# Altium integrated library AMP Card Edge 050 Series PCI.IntLib: 42 symbols (part 2 of 2)
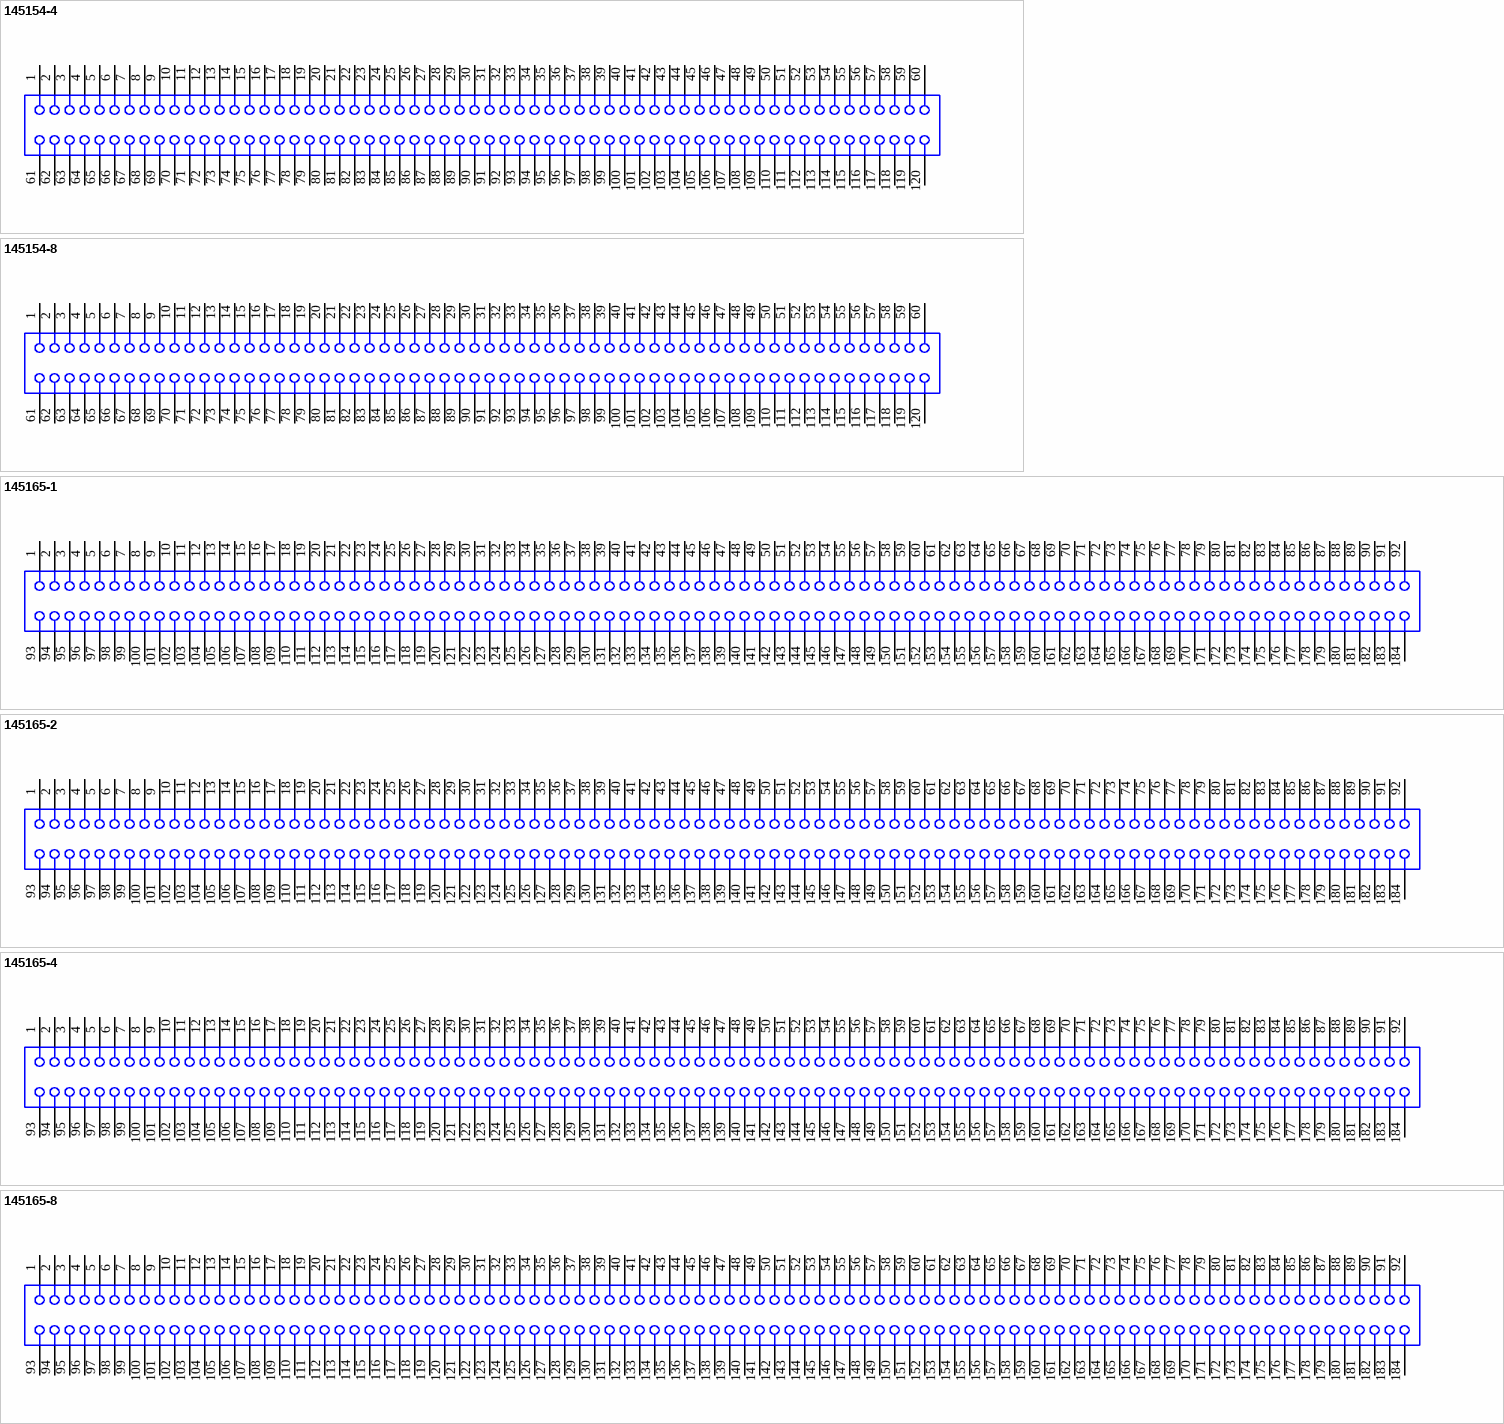
[diagram p7: symbols 145154-4 to 145165-8]

## 145165-8
designator J?
Connector Assembly, 92 Dual Position, 1.27 [.050] Series, Standard Edge; Positions: 2x92; BusWidth: 64 Bit; ContactMaterial: Phosphor Bronze; ContactPlating: Gold (30); Voltage: 3.3V; PCB_Layout: Complies with manufacturer's recommendation.; DrillSize: Corresponds to nominal value.; Published: 17-Jul-2002; DatasheetDocument: 6-Oct-1999; PackageDocument: 06-Oct-1999; PackageReference: 145165-8; Publisher: Altium Limited; ComponentLink1Description: Manufacturer Link; ComponentLink1URL: http://www.tycoelectronics.com/; ComponentLink2Description: Packaging Specification; ComponentLink2URL: http://ecommas.tycoelectronics.com/commerce/DocumentDelivery/DDEController?Action=showdoc&DocId=Customer+Drawing%7F145165%7FH%7Ftif%7FEnglish%7FENG_CD_145165_H.tif
footprint 145165-8 (Connector; Card Edge .050 Series PCI; 2x92 Position; 64-Bit Bus)
signal-integrity model Card Edge
pins: 1 A1, 2 A2, 3 A3, 4 A4, 5 A5, 6 A6, 7 A7, 8 A8, 9 A9, 10 A10, 11 A11, 12 A12, 13 A13, 14 A14, 15 A15, 16 A16, 17 A17, 18 A18, 19 A19, 20 A20, 21 A21, 22 A22, 23 A23, 24 A24, 25 A25, 26 A26, 27 A27, 28 A28, 29 A29, 30 A30, 31 A31, 32 A32, 33 A33, 34 A34, 35 A35, 36 A36, 37 A37, 38 A38, 39 A39, 40 A40, 41 A41, 42 A42, 43 A43, 44 A44, 45 A45, 46 A46, 47 A47, 48 A48, 49 A49, 50 A50, 51 A51, 52 A52, 53 A53, 54 A54, 55 A55, 56 A56, 57 A57, 58 A58, 59 A59, 60 A60, 61 A61, 62 A62, 63 A63, 64 A64, 65 A65, 66 A66, 67 A67, 68 A68, 69 A69, 70 A70, 71 A71, 72 A72, 73 A73, 74 A74, 75 A75, 76 A76, 77 A77, 78 A78, 79 A79, 80 A80, 81 A81, 82 A82, 83 A83, 84 A84, 85 A85, 86 A86, 87 A87, 88 A88, 89 A89, 90 A90, 91 A91, 92 A92, 93 B1, 94 B2, 95 B3, 96 B4, 97 B5, 98 B6, 99 B7, 100 B8, 101 B9, 102 B10, 103 B11, 104 B12, 105 B13, 106 B14, 107 B15, 108 B16, 109 B17, 110 B18, 111 B19, 112 B20, 113 B21, 114 B22, 115 B23, 116 B24, 117 B25, 118 B26, 119 B27, 120 B28, 121 B29, 122 B30, 123 B31, 124 B32, 125 B33, 126 B34, 127 B35, 128 B36, 129 B37, 130 B38, 131 B39, 132 B40, 133 B41, 134 B42, 135 B43, 136 B44, 137 B45, 138 B46, 139 B47, 140 B48, 141 B49, 142 B50, 143 B51, 144 B52, 145 B53, 146 B54, 147 B55, 148 B56, 149 B57, 150 B58, 151 B59, 152 B60, 153 B61, 154 B62, 155 B63, 156 B64, 157 B65, 158 B66, 159 B67, 160 B68, 161 B69, 162 B70, 163 B71, 164 B72, 165 B73, 166 B74, 167 B75, 168 B76, 169 B77, 170 B78, 171 B79, 172 B80, 173 B81, 174 B82, 175 B83, 176 B84, 177 B85, 178 B86, 179 B87, 180 B88, 181 B89, 182 B90, 183 B91, 184 B92

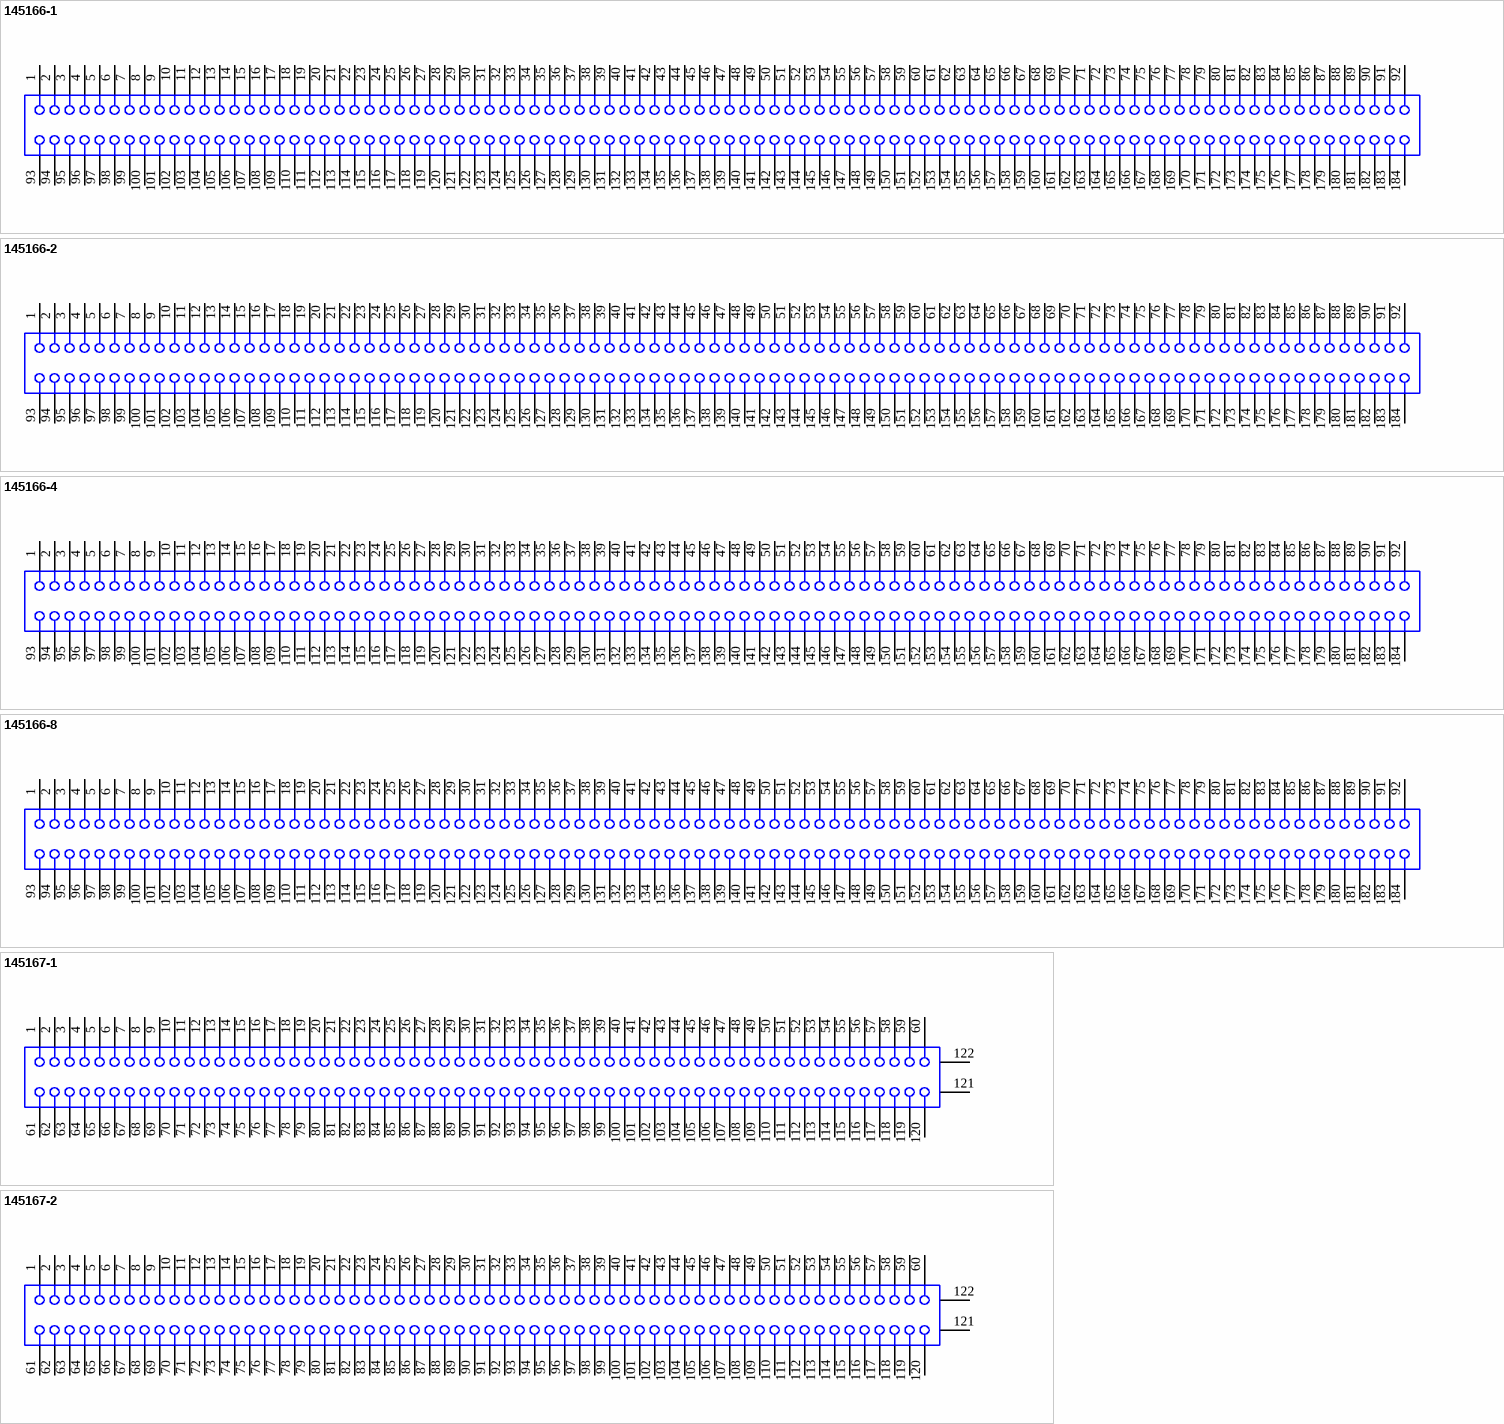
[diagram p4: symbols 145166-1 to 145167-2]

## 145166-1
designator J?
Connector Assembly, 92 Dual Position, 1.27 [.050] Series, Standard Edge; Positions: 2x92; BusWidth: 64 Bit; ContactMaterial: Phosphor Bronze; ContactPlating: Gold Flash; Voltage: 5V; PCB_Layout: Complies with manufacturer's recommendation.; DrillSize: Corresponds to nominal value.; Published: 17-Jul-2002; DatasheetDocument: 14-May-2000; PackageDocument: 14-May-2000; PackageReference: 145166-1; Publisher: Altium Limited; ComponentLink1Description: Manufacturer Link; ComponentLink1URL: http://www.tycoelectronics.com/; ComponentLink2Description: Packaging Specification; ComponentLink2URL: http://ecommas.tycoelectronics.com/commerce/DocumentDelivery/DDEController?Action=showdoc&DocId=Customer+Drawing%7F145166%7FF%7Fpdf%7FEnglish%7FENG_CD_145166_F.pdf
footprint 145166-1 (Connector; Card Edge .050 Series PCI; 2x92 Position; 64-Bit Bus)
signal-integrity model Card Edge
pins: 1 A1, 2 A2, 3 A3, 4 A4, 5 A5, 6 A6, 7 A7, 8 A8, 9 A9, 10 A10, 11 A11, 12 A12, 13 A13, 14 A14, 15 A15, 16 A16, 17 A17, 18 A18, 19 A19, 20 A20, 21 A21, 22 A22, 23 A23, 24 A24, 25 A25, 26 A26, 27 A27, 28 A28, 29 A29, 30 A30, 31 A31, 32 A32, 33 A33, 34 A34, 35 A35, 36 A36, 37 A37, 38 A38, 39 A39, 40 A40, 41 A41, 42 A42, 43 A43, 44 A44, 45 A45, 46 A46, 47 A47, 48 A48, 49 A49, 50 A50, 51 A51, 52 A52, 53 A53, 54 A54, 55 A55, 56 A56, 57 A57, 58 A58, 59 A59, 60 A60, 61 A61, 62 A62, 63 A63, 64 A64, 65 A65, 66 A66, 67 A67, 68 A68, 69 A69, 70 A70, 71 A71, 72 A72, 73 A73, 74 A74, 75 A75, 76 A76, 77 A77, 78 A78, 79 A79, 80 A80, 81 A81, 82 A82, 83 A83, 84 A84, 85 A85, 86 A86, 87 A87, 88 A88, 89 A89, 90 A90, 91 A91, 92 A92, 93 B1, 94 B2, 95 B3, 96 B4, 97 B5, 98 B6, 99 B7, 100 B8, 101 B9, 102 B10, 103 B11, 104 B12, 105 B13, 106 B14, 107 B15, 108 B16, 109 B17, 110 B18, 111 B19, 112 B20, 113 B21, 114 B22, 115 B23, 116 B24, 117 B25, 118 B26, 119 B27, 120 B28, 121 B29, 122 B30, 123 B31, 124 B32, 125 B33, 126 B34, 127 B35, 128 B36, 129 B37, 130 B38, 131 B39, 132 B40, 133 B41, 134 B42, 135 B43, 136 B44, 137 B45, 138 B46, 139 B47, 140 B48, 141 B49, 142 B50, 143 B51, 144 B52, 145 B53, 146 B54, 147 B55, 148 B56, 149 B57, 150 B58, 151 B59, 152 B60, 153 B61, 154 B62, 155 B63, 156 B64, 157 B65, 158 B66, 159 B67, 160 B68, 161 B69, 162 B70, 163 B71, 164 B72, 165 B73, 166 B74, 167 B75, 168 B76, 169 B77, 170 B78, 171 B79, 172 B80, 173 B81, 174 B82, 175 B83, 176 B84, 177 B85, 178 B86, 179 B87, 180 B88, 181 B89, 182 B90, 183 B91, 184 B92

## 145166-2
designator J?
Connector Assembly, 92 Dual Position, 1.27 [.050] Series, Standard Edge; Positions: 2x92; BusWidth: 64 Bit; ContactMaterial: Phosphor Bronze; ContactPlating: Gold (15); Voltage: 5V; PCB_Layout: Complies with manufacturer's recommendation.; DrillSize: Corresponds to nominal value.; Published: 17-Jul-2002; DatasheetDocument: 14-May-2000; PackageDocument: 14-May-2000; PackageReference: 145166-2; Publisher: Altium Limited; ComponentLink1Description: Manufacturer Link; ComponentLink1URL: http://www.tycoelectronics.com/; ComponentLink2Description: Packaging Specification; ComponentLink2URL: http://ecommas.tycoelectronics.com/commerce/DocumentDelivery/DDEController?Action=showdoc&DocId=Customer+Drawing%7F145166%7FF%7Fpdf%7FEnglish%7FENG_CD_145166_F.pdf
footprint 145166-2 (Connector; Card Edge .050 Series PCI; 2x92 Position; 64-Bit Bus)
signal-integrity model Card Edge
pins: 1 A1, 2 A2, 3 A3, 4 A4, 5 A5, 6 A6, 7 A7, 8 A8, 9 A9, 10 A10, 11 A11, 12 A12, 13 A13, 14 A14, 15 A15, 16 A16, 17 A17, 18 A18, 19 A19, 20 A20, 21 A21, 22 A22, 23 A23, 24 A24, 25 A25, 26 A26, 27 A27, 28 A28, 29 A29, 30 A30, 31 A31, 32 A32, 33 A33, 34 A34, 35 A35, 36 A36, 37 A37, 38 A38, 39 A39, 40 A40, 41 A41, 42 A42, 43 A43, 44 A44, 45 A45, 46 A46, 47 A47, 48 A48, 49 A49, 50 A50, 51 A51, 52 A52, 53 A53, 54 A54, 55 A55, 56 A56, 57 A57, 58 A58, 59 A59, 60 A60, 61 A61, 62 A62, 63 A63, 64 A64, 65 A65, 66 A66, 67 A67, 68 A68, 69 A69, 70 A70, 71 A71, 72 A72, 73 A73, 74 A74, 75 A75, 76 A76, 77 A77, 78 A78, 79 A79, 80 A80, 81 A81, 82 A82, 83 A83, 84 A84, 85 A85, 86 A86, 87 A87, 88 A88, 89 A89, 90 A90, 91 A91, 92 A92, 93 B1, 94 B2, 95 B3, 96 B4, 97 B5, 98 B6, 99 B7, 100 B8, 101 B9, 102 B10, 103 B11, 104 B12, 105 B13, 106 B14, 107 B15, 108 B16, 109 B17, 110 B18, 111 B19, 112 B20, 113 B21, 114 B22, 115 B23, 116 B24, 117 B25, 118 B26, 119 B27, 120 B28, 121 B29, 122 B30, 123 B31, 124 B32, 125 B33, 126 B34, 127 B35, 128 B36, 129 B37, 130 B38, 131 B39, 132 B40, 133 B41, 134 B42, 135 B43, 136 B44, 137 B45, 138 B46, 139 B47, 140 B48, 141 B49, 142 B50, 143 B51, 144 B52, 145 B53, 146 B54, 147 B55, 148 B56, 149 B57, 150 B58, 151 B59, 152 B60, 153 B61, 154 B62, 155 B63, 156 B64, 157 B65, 158 B66, 159 B67, 160 B68, 161 B69, 162 B70, 163 B71, 164 B72, 165 B73, 166 B74, 167 B75, 168 B76, 169 B77, 170 B78, 171 B79, 172 B80, 173 B81, 174 B82, 175 B83, 176 B84, 177 B85, 178 B86, 179 B87, 180 B88, 181 B89, 182 B90, 183 B91, 184 B92

## 145166-4
designator J?
Connector Assembly, 92 Dual Position, 1.27 [.050] Series, Standard Edge; Positions: 2x92; BusWidth: 64 Bit; ContactMaterial: Phosphor Bronze; ContactPlating: Gold (30); Voltage: 5V; PCB_Layout: Complies with manufacturer's recommendation.; DrillSize: Corresponds to nominal value.; Published: 17-Jul-2002; DatasheetDocument: 14-May-2000; PackageDocument: 14-May-2000; PackageReference: 145166-4; Publisher: Altium Limited; ComponentLink1Description: Manufacturer Link; ComponentLink1URL: http://www.tycoelectronics.com/; ComponentLink2Description: Packaging Specification; ComponentLink2URL: http://ecommas.tycoelectronics.com/commerce/DocumentDelivery/DDEController?Action=showdoc&DocId=Customer+Drawing%7F145166%7FF%7Fpdf%7FEnglish%7FENG_CD_145166_F.pdf
footprint 145166-4 (Connector; Card Edge .050 Series PCI; 2x92 Position; 64-Bit Bus)
signal-integrity model Card Edge
pins: 1 A1, 2 A2, 3 A3, 4 A4, 5 A5, 6 A6, 7 A7, 8 A8, 9 A9, 10 A10, 11 A11, 12 A12, 13 A13, 14 A14, 15 A15, 16 A16, 17 A17, 18 A18, 19 A19, 20 A20, 21 A21, 22 A22, 23 A23, 24 A24, 25 A25, 26 A26, 27 A27, 28 A28, 29 A29, 30 A30, 31 A31, 32 A32, 33 A33, 34 A34, 35 A35, 36 A36, 37 A37, 38 A38, 39 A39, 40 A40, 41 A41, 42 A42, 43 A43, 44 A44, 45 A45, 46 A46, 47 A47, 48 A48, 49 A49, 50 A50, 51 A51, 52 A52, 53 A53, 54 A54, 55 A55, 56 A56, 57 A57, 58 A58, 59 A59, 60 A60, 61 A61, 62 A62, 63 A63, 64 A64, 65 A65, 66 A66, 67 A67, 68 A68, 69 A69, 70 A70, 71 A71, 72 A72, 73 A73, 74 A74, 75 A75, 76 A76, 77 A77, 78 A78, 79 A79, 80 A80, 81 A81, 82 A82, 83 A83, 84 A84, 85 A85, 86 A86, 87 A87, 88 A88, 89 A89, 90 A90, 91 A91, 92 A92, 93 B1, 94 B2, 95 B3, 96 B4, 97 B5, 98 B6, 99 B7, 100 B8, 101 B9, 102 B10, 103 B11, 104 B12, 105 B13, 106 B14, 107 B15, 108 B16, 109 B17, 110 B18, 111 B19, 112 B20, 113 B21, 114 B22, 115 B23, 116 B24, 117 B25, 118 B26, 119 B27, 120 B28, 121 B29, 122 B30, 123 B31, 124 B32, 125 B33, 126 B34, 127 B35, 128 B36, 129 B37, 130 B38, 131 B39, 132 B40, 133 B41, 134 B42, 135 B43, 136 B44, 137 B45, 138 B46, 139 B47, 140 B48, 141 B49, 142 B50, 143 B51, 144 B52, 145 B53, 146 B54, 147 B55, 148 B56, 149 B57, 150 B58, 151 B59, 152 B60, 153 B61, 154 B62, 155 B63, 156 B64, 157 B65, 158 B66, 159 B67, 160 B68, 161 B69, 162 B70, 163 B71, 164 B72, 165 B73, 166 B74, 167 B75, 168 B76, 169 B77, 170 B78, 171 B79, 172 B80, 173 B81, 174 B82, 175 B83, 176 B84, 177 B85, 178 B86, 179 B87, 180 B88, 181 B89, 182 B90, 183 B91, 184 B92

## 145166-8
designator J?
Connector Assembly, 92 Dual Position, 1.27 [.050] Series, Standard Edge; Positions: 2x92; BusWidth: 64 Bit; ContactMaterial: Phosphor Bronze; ContactPlating: Gold (30); Voltage: 5V; PCB_Layout: Complies with manufacturer's recommendation.; DrillSize: Corresponds to nominal value.; Published: 17-Jul-2002; DatasheetDocument: 14-May-2000; PackageDocument: 14-May-2000; PackageReference: 145166-8; Publisher: Altium Limited; ComponentLink1Description: Manufacturer Link; ComponentLink1URL: http://www.tycoelectronics.com/; ComponentLink2Description: Packaging Specification; ComponentLink2URL: http://ecommas.tycoelectronics.com/commerce/DocumentDelivery/DDEController?Action=showdoc&DocId=Customer+Drawing%7F145166%7FF%7Fpdf%7FEnglish%7FENG_CD_145166_F.pdf
footprint 145166-8 (Connector; Card Edge .050 Series PCI; 2x92 Position; 64-Bit Bus)
signal-integrity model Card Edge
pins: 1 A1, 2 A2, 3 A3, 4 A4, 5 A5, 6 A6, 7 A7, 8 A8, 9 A9, 10 A10, 11 A11, 12 A12, 13 A13, 14 A14, 15 A15, 16 A16, 17 A17, 18 A18, 19 A19, 20 A20, 21 A21, 22 A22, 23 A23, 24 A24, 25 A25, 26 A26, 27 A27, 28 A28, 29 A29, 30 A30, 31 A31, 32 A32, 33 A33, 34 A34, 35 A35, 36 A36, 37 A37, 38 A38, 39 A39, 40 A40, 41 A41, 42 A42, 43 A43, 44 A44, 45 A45, 46 A46, 47 A47, 48 A48, 49 A49, 50 A50, 51 A51, 52 A52, 53 A53, 54 A54, 55 A55, 56 A56, 57 A57, 58 A58, 59 A59, 60 A60, 61 A61, 62 A62, 63 A63, 64 A64, 65 A65, 66 A66, 67 A67, 68 A68, 69 A69, 70 A70, 71 A71, 72 A72, 73 A73, 74 A74, 75 A75, 76 A76, 77 A77, 78 A78, 79 A79, 80 A80, 81 A81, 82 A82, 83 A83, 84 A84, 85 A85, 86 A86, 87 A87, 88 A88, 89 A89, 90 A90, 91 A91, 92 A92, 93 B1, 94 B2, 95 B3, 96 B4, 97 B5, 98 B6, 99 B7, 100 B8, 101 B9, 102 B10, 103 B11, 104 B12, 105 B13, 106 B14, 107 B15, 108 B16, 109 B17, 110 B18, 111 B19, 112 B20, 113 B21, 114 B22, 115 B23, 116 B24, 117 B25, 118 B26, 119 B27, 120 B28, 121 B29, 122 B30, 123 B31, 124 B32, 125 B33, 126 B34, 127 B35, 128 B36, 129 B37, 130 B38, 131 B39, 132 B40, 133 B41, 134 B42, 135 B43, 136 B44, 137 B45, 138 B46, 139 B47, 140 B48, 141 B49, 142 B50, 143 B51, 144 B52, 145 B53, 146 B54, 147 B55, 148 B56, 149 B57, 150 B58, 151 B59, 152 B60, 153 B61, 154 B62, 155 B63, 156 B64, 157 B65, 158 B66, 159 B67, 160 B68, 161 B69, 162 B70, 163 B71, 164 B72, 165 B73, 166 B74, 167 B75, 168 B76, 169 B77, 170 B78, 171 B79, 172 B80, 173 B81, 174 B82, 175 B83, 176 B84, 177 B85, 178 B86, 179 B87, 180 B88, 181 B89, 182 B90, 183 B91, 184 B92

## 145167-1
designator J?
Connector Assembly, 60 Dual Position, 1.27 [.050] Series, Standard Edge; Positions: 2x60; BusWidth: 32 Bit; ContactMaterial: Phosphor Bronze; ContactPlating: Gold Flash; Voltage: 3.3V, 5V; PCB_Layout: Complies with manufacturer's recommendation.; DrillSize: Corresponds to nominal value.; Published: 17-Jul-2002; DatasheetDocument: 22-May-2000; PackageDocument: 22-May-2000; PackageReference: 145167-1; Publisher: Altium Limited; ComponentLink1Description: Manufacturer Link; ComponentLink1URL: http://www.tycoelectronics.com/; ComponentLink2Description: Packaging Specification; ComponentLink2URL: http://ecommas.tycoelectronics.com/commerce/DocumentDelivery/DDEController?Action=showdoc&DocId=Customer+Drawing%7F145167%7FG%7Ftif%7FEnglish%7FENG_CD_145167_G.tif; ComponentLink3Description: Iges Model; ComponentLink3URL: http://catalog.tycoelectronics.com/TE/docs/cadgeo/2/78/51872.tar.gz
footprint 145167-1 (Connector; Card Edge .050 Series PCI; 2x60 Position; 32-Bit Bus)
signal-integrity model Card Edge
pins: 1 A1, 2 A2, 3 A3, 4 A4, 5 A5, 6 A6, 7 A7, 8 A8, 9 A9, 10 A10, 11 A11, 12 A12, 13 A13, 14 A14, 15 A15, 16 A16, 17 A17, 18 A18, 19 A19, 20 A20, 21 A21, 22 A22, 23 A23, 24 A24, 25 A25, 26 A26, 27 A27, 28 A28, 29 A29, 30 A30, 31 A31, 32 A32, 33 A33, 34 A34, 35 A35, 36 A36, 37 A37, 38 A38, 39 A39, 40 A40, 41 A41, 42 A42, 43 A43, 44 A44, 45 A45, 46 A46, 47 A47, 48 A48, 49 A49, 50 A50, 51 A51, 52 A52, 53 A53, 54 A54, 55 A55, 56 A56, 57 A57, 58 A58, 59 A59, 60 A60, 61 B1, 62 B2, 63 B3, 64 B4, 65 B5, 66 B6, 67 B7, 68 B8, 69 B9, 70 B10, 71 B11, 72 B12, 73 B13, 74 B14, 75 B15, 76 B16, 77 B17, 78 B18, 79 B19, 80 B20, 81 B21, 82 B22, 83 B23, 84 B24, 85 B25, 86 B26, 87 B27, 88 B28, 89 B29, 90 B30, 91 B31, 92 B32, 93 B33, 94 B34, 95 B35, 96 B36, 97 B37, 98 B38, 99 B39, 100 B40, 101 B41, 102 B42, 103 B43, 104 B44, 105 B45, 106 B46, 107 B47, 108 B48, 109 B49, 110 B50, 111 B51, 112 B52, 113 B53, 114 B54, 115 B55, 116 B56, 117 B57, 118 B58, 119 B59, 120 B60, 121 MH1, 122 MH2

## 145167-2
designator J?
Connector Assembly, 60 Dual Position, 1.27 [.050] Series, Standard Edge; Positions: 2x60; BusWidth: 32 Bit; ContactMaterial: Phosphor Bronze; ContactPlating: Gold (15); Voltage: 3.3V, 5V; PCB_Layout: Complies with manufacturer's recommendation.; DrillSize: Corresponds to nominal value.; Published: 17-Jul-2002; DatasheetDocument: 22-May-2000; PackageDocument: 22-May-2000; PackageReference: 145167-2; Publisher: Altium Limited; ComponentLink1Description: Manufacturer Link; ComponentLink1URL: http://www.tycoelectronics.com/; ComponentLink2Description: Packaging Specification; ComponentLink2URL: http://ecommas.tycoelectronics.com/commerce/DocumentDelivery/DDEController?Action=showdoc&DocId=Customer+Drawing%7F145167%7FG%7Ftif%7FEnglish%7FENG_CD_145167_G.tif; ComponentLink3Description: Iges Model; ComponentLink3URL: http://catalog.tycoelectronics.com/TE/docs/cadgeo/2/78/51872.tar.gz
footprint 145167-2 (Connector; Card Edge .050 Series PCI; 2x60 Position; 32-Bit Bus)
signal-integrity model Card Edge
pins: 1 A1, 2 A2, 3 A3, 4 A4, 5 A5, 6 A6, 7 A7, 8 A8, 9 A9, 10 A10, 11 A11, 12 A12, 13 A13, 14 A14, 15 A15, 16 A16, 17 A17, 18 A18, 19 A19, 20 A20, 21 A21, 22 A22, 23 A23, 24 A24, 25 A25, 26 A26, 27 A27, 28 A28, 29 A29, 30 A30, 31 A31, 32 A32, 33 A33, 34 A34, 35 A35, 36 A36, 37 A37, 38 A38, 39 A39, 40 A40, 41 A41, 42 A42, 43 A43, 44 A44, 45 A45, 46 A46, 47 A47, 48 A48, 49 A49, 50 A50, 51 A51, 52 A52, 53 A53, 54 A54, 55 A55, 56 A56, 57 A57, 58 A58, 59 A59, 60 A60, 61 B1, 62 B2, 63 B3, 64 B4, 65 B5, 66 B6, 67 B7, 68 B8, 69 B9, 70 B10, 71 B11, 72 B12, 73 B13, 74 B14, 75 B15, 76 B16, 77 B17, 78 B18, 79 B19, 80 B20, 81 B21, 82 B22, 83 B23, 84 B24, 85 B25, 86 B26, 87 B27, 88 B28, 89 B29, 90 B30, 91 B31, 92 B32, 93 B33, 94 B34, 95 B35, 96 B36, 97 B37, 98 B38, 99 B39, 100 B40, 101 B41, 102 B42, 103 B43, 104 B44, 105 B45, 106 B46, 107 B47, 108 B48, 109 B49, 110 B50, 111 B51, 112 B52, 113 B53, 114 B54, 115 B55, 116 B56, 117 B57, 118 B58, 119 B59, 120 B60, 121 MH1, 122 MH2

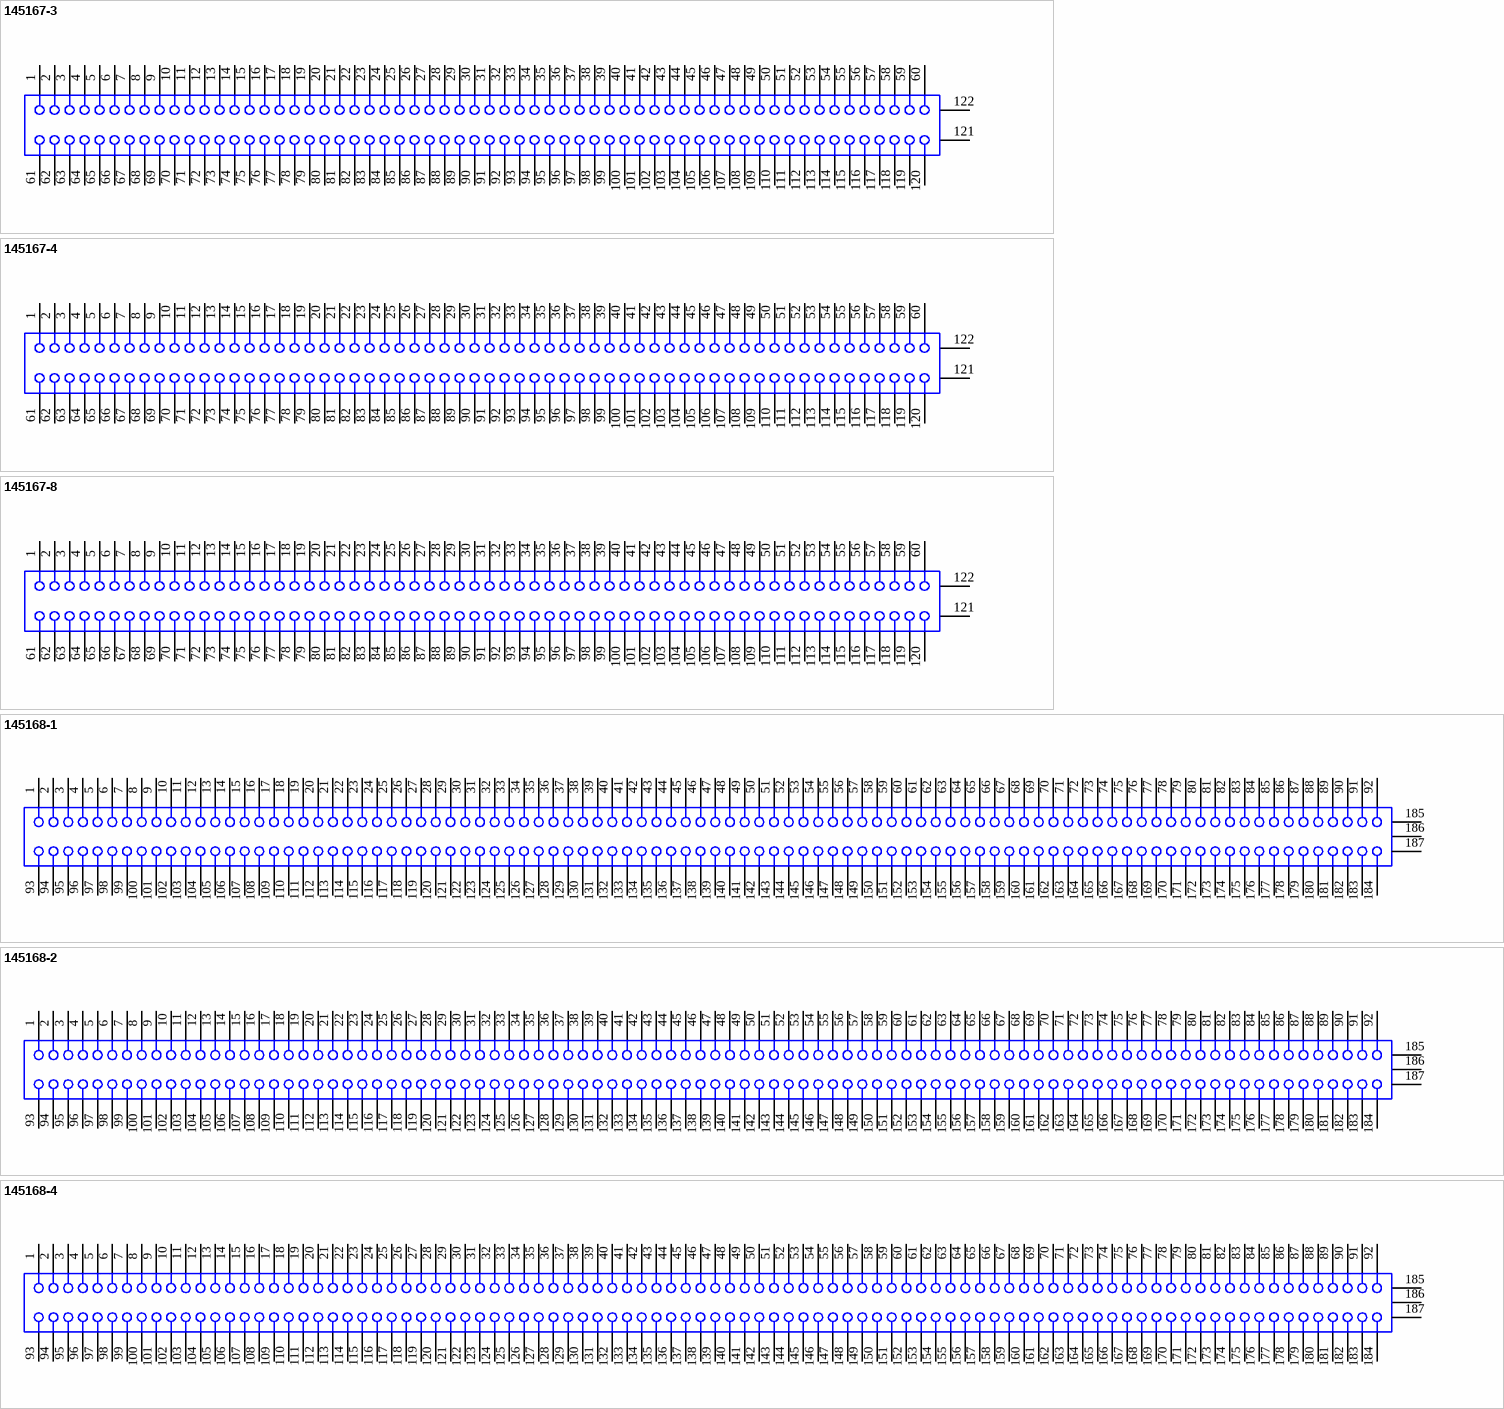
[diagram p5: symbols 145167-3 to 145168-4]

## 145167-3
designator J?
Connector Assembly, 60 Dual Position, 1.27 [.050] Series, Standard Edge; Positions: 2x60; BusWidth: 32 Bit; ContactMaterial: Phosphor Bronze; ContactPlating: Gold (30); Voltage: 3.3V, 5V; PCB_Layout: Complies with manufacturer's recommendation.; DrillSize: Corresponds to nominal value.; Published: 17-Jul-2002; DatasheetDocument: 22-May-2000; PackageDocument: 22-May-2000; PackageReference: 145167-3; Publisher: Altium Limited; ComponentLink1Description: Manufacturer Link; ComponentLink1URL: http://www.tycoelectronics.com/; ComponentLink2Description: Packaging Specification; ComponentLink2URL: http://ecommas.tycoelectronics.com/commerce/DocumentDelivery/DDEController?Action=showdoc&DocId=Customer+Drawing%7F145167%7FG%7Ftif%7FEnglish%7FENG_CD_145167_G.tif; ComponentLink3Description: Iges Model; ComponentLink3URL: http://catalog.tycoelectronics.com/TE/docs/cadgeo/2/78/51872.tar.gz
footprint 145167-3 (Connector; Card Edge .050 Series PCI; 2x60 Position; 32-Bit Bus)
signal-integrity model Card Edge
pins: 1 A1, 2 A2, 3 A3, 4 A4, 5 A5, 6 A6, 7 A7, 8 A8, 9 A9, 10 A10, 11 A11, 12 A12, 13 A13, 14 A14, 15 A15, 16 A16, 17 A17, 18 A18, 19 A19, 20 A20, 21 A21, 22 A22, 23 A23, 24 A24, 25 A25, 26 A26, 27 A27, 28 A28, 29 A29, 30 A30, 31 A31, 32 A32, 33 A33, 34 A34, 35 A35, 36 A36, 37 A37, 38 A38, 39 A39, 40 A40, 41 A41, 42 A42, 43 A43, 44 A44, 45 A45, 46 A46, 47 A47, 48 A48, 49 A49, 50 A50, 51 A51, 52 A52, 53 A53, 54 A54, 55 A55, 56 A56, 57 A57, 58 A58, 59 A59, 60 A60, 61 B1, 62 B2, 63 B3, 64 B4, 65 B5, 66 B6, 67 B7, 68 B8, 69 B9, 70 B10, 71 B11, 72 B12, 73 B13, 74 B14, 75 B15, 76 B16, 77 B17, 78 B18, 79 B19, 80 B20, 81 B21, 82 B22, 83 B23, 84 B24, 85 B25, 86 B26, 87 B27, 88 B28, 89 B29, 90 B30, 91 B31, 92 B32, 93 B33, 94 B34, 95 B35, 96 B36, 97 B37, 98 B38, 99 B39, 100 B40, 101 B41, 102 B42, 103 B43, 104 B44, 105 B45, 106 B46, 107 B47, 108 B48, 109 B49, 110 B50, 111 B51, 112 B52, 113 B53, 114 B54, 115 B55, 116 B56, 117 B57, 118 B58, 119 B59, 120 B60, 121 MH1, 122 MH2

## 145167-4
designator J?
Connector Assembly, 60 Dual Position, 1.27 [.050] Series, Standard Edge; Positions: 2x60; BusWidth: 32 Bit; ContactMaterial: Phosphor Bronze; ContactPlating: Gold (30); Voltage: 3.3V, 5V; PCB_Layout: Complies with manufacturer's recommendation.; DrillSize: Corresponds to nominal value.; Published: 17-Jul-2002; DatasheetDocument: 22-May-2000; PackageDocument: 22-May-2000; PackageReference: 145167-4; Publisher: Altium Limited; ComponentLink1Description: Manufacturer Link; ComponentLink1URL: http://www.tycoelectronics.com/; ComponentLink2Description: Packaging Specification; ComponentLink2URL: http://ecommas.tycoelectronics.com/commerce/DocumentDelivery/DDEController?Action=showdoc&DocId=Customer+Drawing%7F145167%7FG%7Ftif%7FEnglish%7FENG_CD_145167_G.tif; ComponentLink3Description: Iges Model; ComponentLink3URL: http://catalog.tycoelectronics.com/TE/docs/cadgeo/2/78/51872.tar.gz
footprint 145167-4 (Connector; Card Edge .050 Series PCI; 2x60 Position; 32-Bit Bus)
signal-integrity model Card Edge
pins: 1 A1, 2 A2, 3 A3, 4 A4, 5 A5, 6 A6, 7 A7, 8 A8, 9 A9, 10 A10, 11 A11, 12 A12, 13 A13, 14 A14, 15 A15, 16 A16, 17 A17, 18 A18, 19 A19, 20 A20, 21 A21, 22 A22, 23 A23, 24 A24, 25 A25, 26 A26, 27 A27, 28 A28, 29 A29, 30 A30, 31 A31, 32 A32, 33 A33, 34 A34, 35 A35, 36 A36, 37 A37, 38 A38, 39 A39, 40 A40, 41 A41, 42 A42, 43 A43, 44 A44, 45 A45, 46 A46, 47 A47, 48 A48, 49 A49, 50 A50, 51 A51, 52 A52, 53 A53, 54 A54, 55 A55, 56 A56, 57 A57, 58 A58, 59 A59, 60 A60, 61 B1, 62 B2, 63 B3, 64 B4, 65 B5, 66 B6, 67 B7, 68 B8, 69 B9, 70 B10, 71 B11, 72 B12, 73 B13, 74 B14, 75 B15, 76 B16, 77 B17, 78 B18, 79 B19, 80 B20, 81 B21, 82 B22, 83 B23, 84 B24, 85 B25, 86 B26, 87 B27, 88 B28, 89 B29, 90 B30, 91 B31, 92 B32, 93 B33, 94 B34, 95 B35, 96 B36, 97 B37, 98 B38, 99 B39, 100 B40, 101 B41, 102 B42, 103 B43, 104 B44, 105 B45, 106 B46, 107 B47, 108 B48, 109 B49, 110 B50, 111 B51, 112 B52, 113 B53, 114 B54, 115 B55, 116 B56, 117 B57, 118 B58, 119 B59, 120 B60, 121 MH1, 122 MH2

## 145167-8
designator J?
Connector Assembly, 60 Dual Position, 1.27 [.050] Series, Standard Edge; Positions: 2x60; BusWidth: 32 Bit; ContactMaterial: Phosphor Bronze; ContactPlating: Gold (30); Voltage: 3.3V, 5V; PCB_Layout: Complies with manufacturer's recommendation.; DrillSize: Corresponds to nominal value.; Published: 17-Jul-2002; DatasheetDocument: 22-May-2000; PackageDocument: 22-May-2000; PackageReference: 145167-8; Publisher: Altium Limited; ComponentLink1Description: Manufacturer Link; ComponentLink1URL: http://www.tycoelectronics.com/; ComponentLink2Description: Packaging Specification; ComponentLink2URL: http://ecommas.tycoelectronics.com/commerce/DocumentDelivery/DDEController?Action=showdoc&DocId=Customer+Drawing%7F145167%7FG%7Ftif%7FEnglish%7FENG_CD_145167_G.tif; ComponentLink3Description: Iges Model; ComponentLink3URL: http://catalog.tycoelectronics.com/TE/docs/cadgeo/2/78/51872.tar.gz
footprint 145167-8 (Connector; Card Edge .050 Series PCI; 2x60 Position; 32-Bit Bus)
signal-integrity model Card Edge
pins: 1 A1, 2 A2, 3 A3, 4 A4, 5 A5, 6 A6, 7 A7, 8 A8, 9 A9, 10 A10, 11 A11, 12 A12, 13 A13, 14 A14, 15 A15, 16 A16, 17 A17, 18 A18, 19 A19, 20 A20, 21 A21, 22 A22, 23 A23, 24 A24, 25 A25, 26 A26, 27 A27, 28 A28, 29 A29, 30 A30, 31 A31, 32 A32, 33 A33, 34 A34, 35 A35, 36 A36, 37 A37, 38 A38, 39 A39, 40 A40, 41 A41, 42 A42, 43 A43, 44 A44, 45 A45, 46 A46, 47 A47, 48 A48, 49 A49, 50 A50, 51 A51, 52 A52, 53 A53, 54 A54, 55 A55, 56 A56, 57 A57, 58 A58, 59 A59, 60 A60, 61 B1, 62 B2, 63 B3, 64 B4, 65 B5, 66 B6, 67 B7, 68 B8, 69 B9, 70 B10, 71 B11, 72 B12, 73 B13, 74 B14, 75 B15, 76 B16, 77 B17, 78 B18, 79 B19, 80 B20, 81 B21, 82 B22, 83 B23, 84 B24, 85 B25, 86 B26, 87 B27, 88 B28, 89 B29, 90 B30, 91 B31, 92 B32, 93 B33, 94 B34, 95 B35, 96 B36, 97 B37, 98 B38, 99 B39, 100 B40, 101 B41, 102 B42, 103 B43, 104 B44, 105 B45, 106 B46, 107 B47, 108 B48, 109 B49, 110 B50, 111 B51, 112 B52, 113 B53, 114 B54, 115 B55, 116 B56, 117 B57, 118 B58, 119 B59, 120 B60, 121 MH1, 122 MH2

## 145168-1
designator J?
Connector Assembly, 92 Dual Position, 1.27 [.050] Series, Standard Edge; Positions: 2x92; BusWidth: 64 Bit; ContactMaterial: Phosphor Bronze; ContactPlating: Gold Flash; Voltage: 3.3V; PCB_Layout: Complies with manufacturer's recommendation.; DrillSize: Corresponds to nominal value.; Published: 17-Jul-2002; DatasheetDocument: 24-May-2000; PackageDocument: 24-May-2000; PackageReference: 145168-1; Publisher: Altium Limited; ComponentLink1Description: Manufacturer Link; ComponentLink1URL: http://www.tycoelectronics.com/; ComponentLink2Description: Packaging Specification; ComponentLink2URL: http://ecommas.tycoelectronics.com/commerce/DocumentDelivery/DDEController?Action=showdoc&DocId=Customer+Drawing%7F145168%7FJ%7Fpdf%7FEnglish%7FENG_CD_145168_J.pdf
footprint 145168-1 (Connector; Card Edge .050 Series PCI; 2x92 Position; 64-Bit Bus)
signal-integrity model Card Edge
pins: 1 A1, 2 A2, 3 A3, 4 A4, 5 A5, 6 A6, 7 A7, 8 A8, 9 A9, 10 A10, 11 A11, 12 A12, 13 A13, 14 A14, 15 A15, 16 A16, 17 A17, 18 A18, 19 A19, 20 A20, 21 A21, 22 A22, 23 A23, 24 A24, 25 A25, 26 A26, 27 A27, 28 A28, 29 A29, 30 A30, 31 A31, 32 A32, 33 A33, 34 A34, 35 A35, 36 A36, 37 A37, 38 A38, 39 A39, 40 A40, 41 A41, 42 A42, 43 A43, 44 A44, 45 A45, 46 A46, 47 A47, 48 A48, 49 A49, 50 A50, 51 A51, 52 A52, 53 A53, 54 A54, 55 A55, 56 A56, 57 A57, 58 A58, 59 A59, 60 A60, 61 A61, 62 A62, 63 A63, 64 A64, 65 A65, 66 A66, 67 A67, 68 A68, 69 A69, 70 A70, 71 A71, 72 A72, 73 A73, 74 A74, 75 A75, 76 A76, 77 A77, 78 A78, 79 A79, 80 A80, 81 A81, 82 A82, 83 A83, 84 A84, 85 A85, 86 A86, 87 A87, 88 A88, 89 A89, 90 A90, 91 A91, 92 A92, 93 B1, 94 B2, 95 B3, 96 B4, 97 B5, 98 B6, 99 B7, 100 B8, 101 B9, 102 B10, 103 B11, 104 B12, 105 B13, 106 B14, 107 B15, 108 B16, 109 B17, 110 B18, 111 B19, 112 B20, 113 B21, 114 B22, 115 B23, 116 B24, 117 B25, 118 B26, 119 B27, 120 B28, 121 B29, 122 B30, 123 B31, 124 B32, 125 B33, 126 B34, 127 B35, 128 B36, 129 B37, 130 B38, 131 B39, 132 B40, 133 B41, 134 B42, 135 B43, 136 B44, 137 B45, 138 B46, 139 B47, 140 B48, 141 B49, 142 B50, 143 B51, 144 B52, 145 B53, 146 B54, 147 B55, 148 B56, 149 B57, 150 B58, 151 B59, 152 B60, 153 B61, 154 B62, 155 B63, 156 B64, 157 B65, 158 B66, 159 B67, 160 B68, 161 B69, 162 B70, 163 B71, 164 B72, 165 B73, 166 B74, 167 B75, 168 B76, 169 B77, 170 B78, 171 B79, 172 B80, 173 B81, 174 B82, 175 B83, 176 B84, 177 B85, 178 B86, 179 B87, 180 B88, 181 B89, 182 B90, 183 B91, 184 B92, 185 MH1, 186 MH2, 187 MH3

## 145168-2
designator J?
Connector Assembly, 92 Dual Position, 1.27 [.050] Series, Standard Edge; Positions: 2x92; BusWidth: 64 Bit; ContactMaterial: Phosphor Bronze; ContactPlating: Gold (15); Voltage: 3.3V; PCB_Layout: Complies with manufacturer's recommendation.; DrillSize: Corresponds to nominal value.; Published: 17-Jul-2002; DatasheetDocument: 24-May-2000; PackageDocument: 24-May-2000; PackageReference: 145168-2; Publisher: Altium Limited; ComponentLink1Description: Manufacturer Link; ComponentLink1URL: http://www.tycoelectronics.com/; ComponentLink2Description: Packaging Specification; ComponentLink2URL: http://ecommas.tycoelectronics.com/commerce/DocumentDelivery/DDEController?Action=showdoc&DocId=Customer+Drawing%7F145168%7FJ%7Fpdf%7FEnglish%7FENG_CD_145168_J.pdf
footprint 145168-2 (Connector; Card Edge .050 Series PCI; 2x92 Position; 64-Bit Bus)
signal-integrity model Card Edge
pins: 1 A1, 2 A2, 3 A3, 4 A4, 5 A5, 6 A6, 7 A7, 8 A8, 9 A9, 10 A10, 11 A11, 12 A12, 13 A13, 14 A14, 15 A15, 16 A16, 17 A17, 18 A18, 19 A19, 20 A20, 21 A21, 22 A22, 23 A23, 24 A24, 25 A25, 26 A26, 27 A27, 28 A28, 29 A29, 30 A30, 31 A31, 32 A32, 33 A33, 34 A34, 35 A35, 36 A36, 37 A37, 38 A38, 39 A39, 40 A40, 41 A41, 42 A42, 43 A43, 44 A44, 45 A45, 46 A46, 47 A47, 48 A48, 49 A49, 50 A50, 51 A51, 52 A52, 53 A53, 54 A54, 55 A55, 56 A56, 57 A57, 58 A58, 59 A59, 60 A60, 61 A61, 62 A62, 63 A63, 64 A64, 65 A65, 66 A66, 67 A67, 68 A68, 69 A69, 70 A70, 71 A71, 72 A72, 73 A73, 74 A74, 75 A75, 76 A76, 77 A77, 78 A78, 79 A79, 80 A80, 81 A81, 82 A82, 83 A83, 84 A84, 85 A85, 86 A86, 87 A87, 88 A88, 89 A89, 90 A90, 91 A91, 92 A92, 93 B1, 94 B2, 95 B3, 96 B4, 97 B5, 98 B6, 99 B7, 100 B8, 101 B9, 102 B10, 103 B11, 104 B12, 105 B13, 106 B14, 107 B15, 108 B16, 109 B17, 110 B18, 111 B19, 112 B20, 113 B21, 114 B22, 115 B23, 116 B24, 117 B25, 118 B26, 119 B27, 120 B28, 121 B29, 122 B30, 123 B31, 124 B32, 125 B33, 126 B34, 127 B35, 128 B36, 129 B37, 130 B38, 131 B39, 132 B40, 133 B41, 134 B42, 135 B43, 136 B44, 137 B45, 138 B46, 139 B47, 140 B48, 141 B49, 142 B50, 143 B51, 144 B52, 145 B53, 146 B54, 147 B55, 148 B56, 149 B57, 150 B58, 151 B59, 152 B60, 153 B61, 154 B62, 155 B63, 156 B64, 157 B65, 158 B66, 159 B67, 160 B68, 161 B69, 162 B70, 163 B71, 164 B72, 165 B73, 166 B74, 167 B75, 168 B76, 169 B77, 170 B78, 171 B79, 172 B80, 173 B81, 174 B82, 175 B83, 176 B84, 177 B85, 178 B86, 179 B87, 180 B88, 181 B89, 182 B90, 183 B91, 184 B92, 185 MH1, 186 MH2, 187 MH3

## 145168-4
designator J?
Connector Assembly, 92 Dual Position, 1.27 [.050] Series, Standard Edge; Positions: 2x92; BusWidth: 64 Bit; ContactMaterial: Phosphor Bronze; ContactPlating: Gold (30); Voltage: 3.3V; PCB_Layout: Complies with manufacturer's recommendation.; DrillSize: Corresponds to nominal value.; Published: 17-Jul-2002; DatasheetDocument: 24-May-2000; PackageDocument: 24-May-2000; PackageReference: 145168-4; Publisher: Altium Limited; ComponentLink1Description: Manufacturer Link; ComponentLink1URL: http://www.tycoelectronics.com/; ComponentLink2Description: Packaging Specification; ComponentLink2URL: http://ecommas.tycoelectronics.com/commerce/DocumentDelivery/DDEController?Action=showdoc&DocId=Customer+Drawing%7F145168%7FJ%7Fpdf%7FEnglish%7FENG_CD_145168_J.pdf
footprint 145168-4 (Connector; Card Edge .050 Series PCI; 2x92 Position; 64-Bit Bus)
signal-integrity model Card Edge
pins: 1 A1, 2 A2, 3 A3, 4 A4, 5 A5, 6 A6, 7 A7, 8 A8, 9 A9, 10 A10, 11 A11, 12 A12, 13 A13, 14 A14, 15 A15, 16 A16, 17 A17, 18 A18, 19 A19, 20 A20, 21 A21, 22 A22, 23 A23, 24 A24, 25 A25, 26 A26, 27 A27, 28 A28, 29 A29, 30 A30, 31 A31, 32 A32, 33 A33, 34 A34, 35 A35, 36 A36, 37 A37, 38 A38, 39 A39, 40 A40, 41 A41, 42 A42, 43 A43, 44 A44, 45 A45, 46 A46, 47 A47, 48 A48, 49 A49, 50 A50, 51 A51, 52 A52, 53 A53, 54 A54, 55 A55, 56 A56, 57 A57, 58 A58, 59 A59, 60 A60, 61 A61, 62 A62, 63 A63, 64 A64, 65 A65, 66 A66, 67 A67, 68 A68, 69 A69, 70 A70, 71 A71, 72 A72, 73 A73, 74 A74, 75 A75, 76 A76, 77 A77, 78 A78, 79 A79, 80 A80, 81 A81, 82 A82, 83 A83, 84 A84, 85 A85, 86 A86, 87 A87, 88 A88, 89 A89, 90 A90, 91 A91, 92 A92, 93 B1, 94 B2, 95 B3, 96 B4, 97 B5, 98 B6, 99 B7, 100 B8, 101 B9, 102 B10, 103 B11, 104 B12, 105 B13, 106 B14, 107 B15, 108 B16, 109 B17, 110 B18, 111 B19, 112 B20, 113 B21, 114 B22, 115 B23, 116 B24, 117 B25, 118 B26, 119 B27, 120 B28, 121 B29, 122 B30, 123 B31, 124 B32, 125 B33, 126 B34, 127 B35, 128 B36, 129 B37, 130 B38, 131 B39, 132 B40, 133 B41, 134 B42, 135 B43, 136 B44, 137 B45, 138 B46, 139 B47, 140 B48, 141 B49, 142 B50, 143 B51, 144 B52, 145 B53, 146 B54, 147 B55, 148 B56, 149 B57, 150 B58, 151 B59, 152 B60, 153 B61, 154 B62, 155 B63, 156 B64, 157 B65, 158 B66, 159 B67, 160 B68, 161 B69, 162 B70, 163 B71, 164 B72, 165 B73, 166 B74, 167 B75, 168 B76, 169 B77, 170 B78, 171 B79, 172 B80, 173 B81, 174 B82, 175 B83, 176 B84, 177 B85, 178 B86, 179 B87, 180 B88, 181 B89, 182 B90, 183 B91, 184 B92, 185 MH1, 186 MH2, 187 MH3

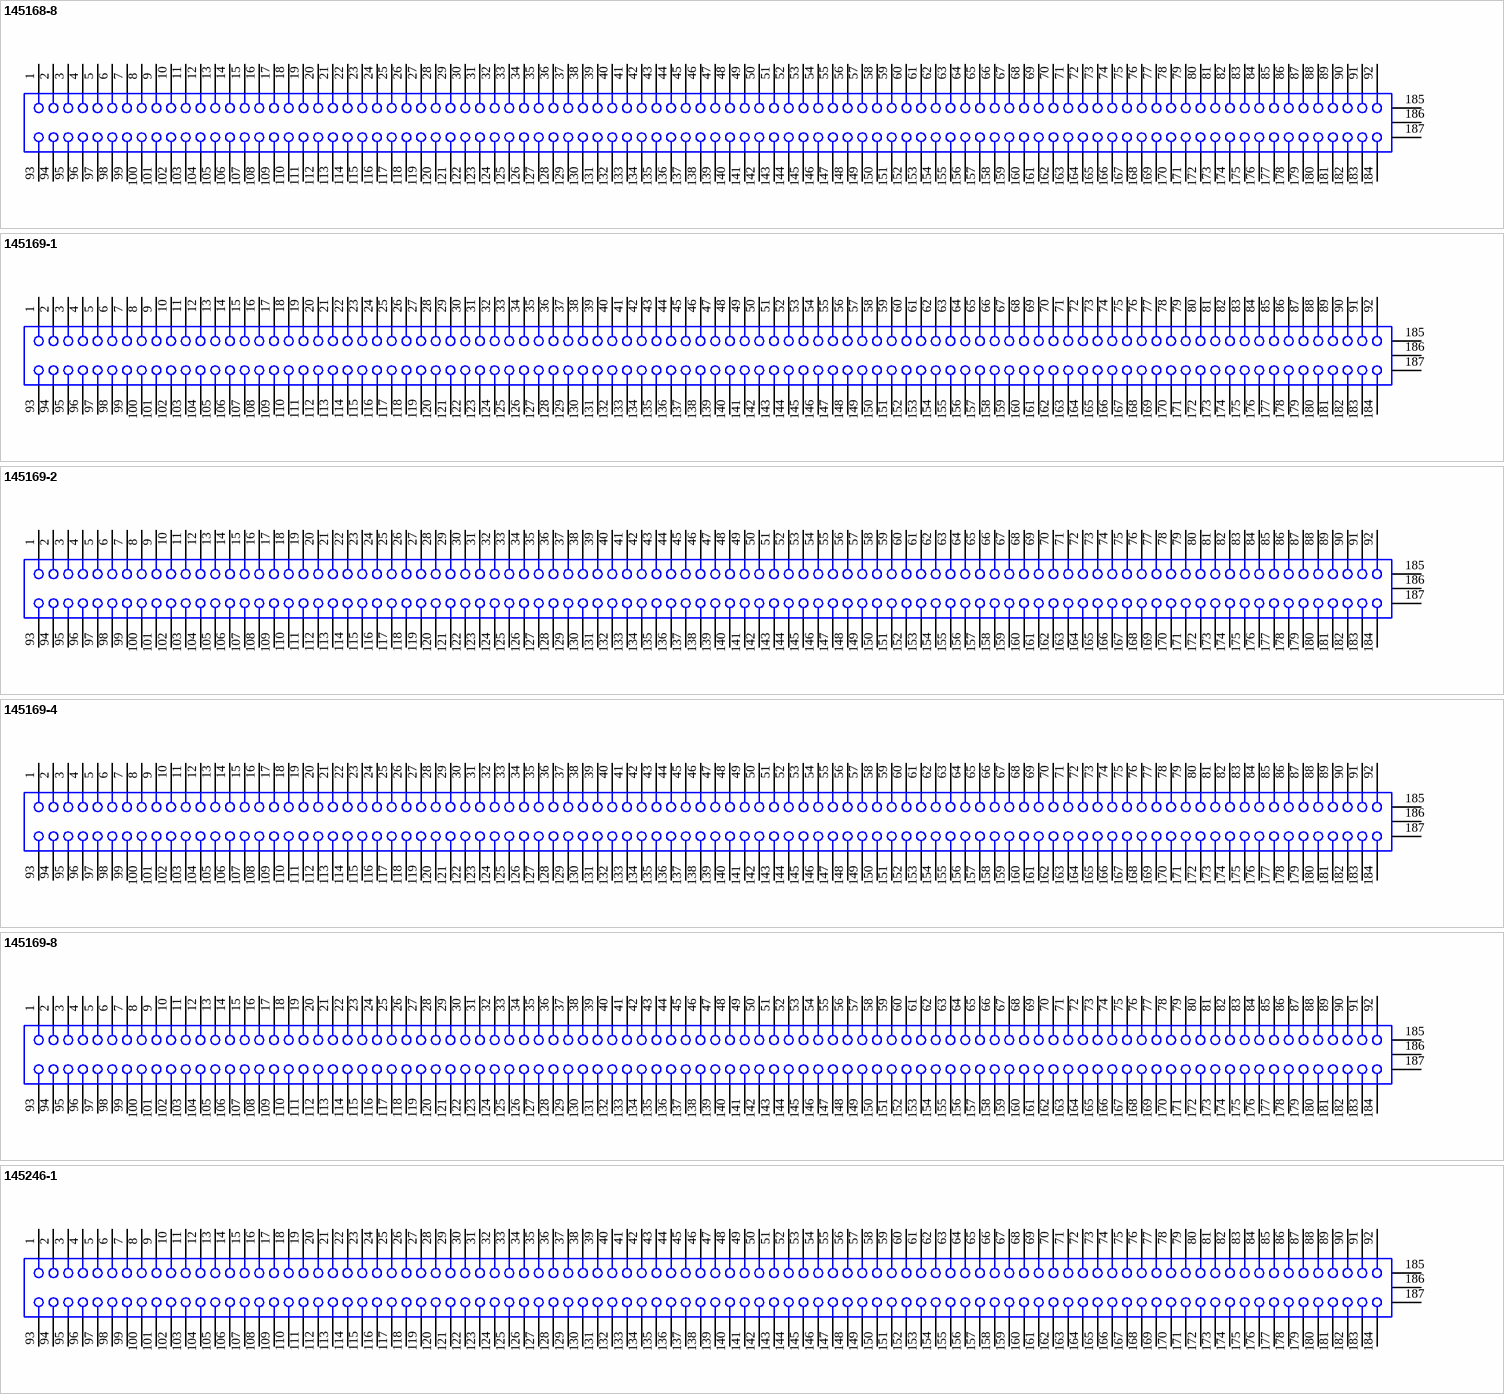
[diagram p6: symbols 145168-8 to 145246-1]

## 145168-8
designator J?
Connector Assembly, 92 Dual Position, 1.27 [.050] Series, Standard Edge; Positions: 2x92; BusWidth: 64 Bit; ContactMaterial: Phosphor Bronze; ContactPlating: Gold (30); Voltage: 3.3V; PCB_Layout: Complies with manufacturer's recommendation.; DrillSize: Corresponds to nominal value.; Published: 17-Jul-2002; DatasheetDocument: 24-May-2000; PackageDocument: 24-May-2000; PackageReference: 145168-8; Publisher: Altium Limited; ComponentLink1Description: Manufacturer Link; ComponentLink1URL: http://www.tycoelectronics.com/; ComponentLink2Description: Packaging Specification; ComponentLink2URL: http://ecommas.tycoelectronics.com/commerce/DocumentDelivery/DDEController?Action=showdoc&DocId=Customer+Drawing%7F145168%7FJ%7Fpdf%7FEnglish%7FENG_CD_145168_J.pdf
footprint 145168-8 (Connector; Card Edge .050 Series PCI; 2x92 Position; 64-Bit Bus)
signal-integrity model Card Edge
pins: 1 A1, 2 A2, 3 A3, 4 A4, 5 A5, 6 A6, 7 A7, 8 A8, 9 A9, 10 A10, 11 A11, 12 A12, 13 A13, 14 A14, 15 A15, 16 A16, 17 A17, 18 A18, 19 A19, 20 A20, 21 A21, 22 A22, 23 A23, 24 A24, 25 A25, 26 A26, 27 A27, 28 A28, 29 A29, 30 A30, 31 A31, 32 A32, 33 A33, 34 A34, 35 A35, 36 A36, 37 A37, 38 A38, 39 A39, 40 A40, 41 A41, 42 A42, 43 A43, 44 A44, 45 A45, 46 A46, 47 A47, 48 A48, 49 A49, 50 A50, 51 A51, 52 A52, 53 A53, 54 A54, 55 A55, 56 A56, 57 A57, 58 A58, 59 A59, 60 A60, 61 A61, 62 A62, 63 A63, 64 A64, 65 A65, 66 A66, 67 A67, 68 A68, 69 A69, 70 A70, 71 A71, 72 A72, 73 A73, 74 A74, 75 A75, 76 A76, 77 A77, 78 A78, 79 A79, 80 A80, 81 A81, 82 A82, 83 A83, 84 A84, 85 A85, 86 A86, 87 A87, 88 A88, 89 A89, 90 A90, 91 A91, 92 A92, 93 B1, 94 B2, 95 B3, 96 B4, 97 B5, 98 B6, 99 B7, 100 B8, 101 B9, 102 B10, 103 B11, 104 B12, 105 B13, 106 B14, 107 B15, 108 B16, 109 B17, 110 B18, 111 B19, 112 B20, 113 B21, 114 B22, 115 B23, 116 B24, 117 B25, 118 B26, 119 B27, 120 B28, 121 B29, 122 B30, 123 B31, 124 B32, 125 B33, 126 B34, 127 B35, 128 B36, 129 B37, 130 B38, 131 B39, 132 B40, 133 B41, 134 B42, 135 B43, 136 B44, 137 B45, 138 B46, 139 B47, 140 B48, 141 B49, 142 B50, 143 B51, 144 B52, 145 B53, 146 B54, 147 B55, 148 B56, 149 B57, 150 B58, 151 B59, 152 B60, 153 B61, 154 B62, 155 B63, 156 B64, 157 B65, 158 B66, 159 B67, 160 B68, 161 B69, 162 B70, 163 B71, 164 B72, 165 B73, 166 B74, 167 B75, 168 B76, 169 B77, 170 B78, 171 B79, 172 B80, 173 B81, 174 B82, 175 B83, 176 B84, 177 B85, 178 B86, 179 B87, 180 B88, 181 B89, 182 B90, 183 B91, 184 B92, 185 MH1, 186 MH2, 187 MH3

## 145169-1
designator J?
Connector Assembly, 92 Dual Position, 1.27 [.050] Series, Standard Edge; Positions: 2x92; BusWidth: 64 Bit; ContactMaterial: Phosphor Bronze; ContactPlating: Gold Flash; Voltage: 5V; PCB_Layout: Complies with manufacturer's recommendation.; DrillSize: Corresponds to nominal value.; Published: 17-Jul-2002; DatasheetDocument: 9-Jun-2000; PackageDocument: 09-Jun-2000; PackageReference: 145169-1; Publisher: Altium Limited; ComponentLink1Description: Manufacturer Link; ComponentLink1URL: http://www.tycoelectronics.com/; ComponentLink2Description: Packaging Specification; ComponentLink2URL: http://ecommas.tycoelectronics.com/commerce/DocumentDelivery/DDEController?Action=showdoc&DocId=Customer+Drawing%7F145169%7FG%7Ftif%7FEnglish%7FENG_CD_145169_G.tif; ComponentLink3Description: Iges Model; ComponentLink3URL: http://catalog.tycoelectronics.com/TE/docs/cadgeo/0/23/35320.tar.gz
footprint 145169-1 (Connector; Card Edge .050 Series PCI; 2x92 Position; 64-Bit Bus)
signal-integrity model Card Edge
pins: 1 A1, 2 A2, 3 A3, 4 A4, 5 A5, 6 A6, 7 A7, 8 A8, 9 A9, 10 A10, 11 A11, 12 A12, 13 A13, 14 A14, 15 A15, 16 A16, 17 A17, 18 A18, 19 A19, 20 A20, 21 A21, 22 A22, 23 A23, 24 A24, 25 A25, 26 A26, 27 A27, 28 A28, 29 A29, 30 A30, 31 A31, 32 A32, 33 A33, 34 A34, 35 A35, 36 A36, 37 A37, 38 A38, 39 A39, 40 A40, 41 A41, 42 A42, 43 A43, 44 A44, 45 A45, 46 A46, 47 A47, 48 A48, 49 A49, 50 A50, 51 A51, 52 A52, 53 A53, 54 A54, 55 A55, 56 A56, 57 A57, 58 A58, 59 A59, 60 A60, 61 A61, 62 A62, 63 A63, 64 A64, 65 A65, 66 A66, 67 A67, 68 A68, 69 A69, 70 A70, 71 A71, 72 A72, 73 A73, 74 A74, 75 A75, 76 A76, 77 A77, 78 A78, 79 A79, 80 A80, 81 A81, 82 A82, 83 A83, 84 A84, 85 A85, 86 A86, 87 A87, 88 A88, 89 A89, 90 A90, 91 A91, 92 A92, 93 B1, 94 B2, 95 B3, 96 B4, 97 B5, 98 B6, 99 B7, 100 B8, 101 B9, 102 B10, 103 B11, 104 B12, 105 B13, 106 B14, 107 B15, 108 B16, 109 B17, 110 B18, 111 B19, 112 B20, 113 B21, 114 B22, 115 B23, 116 B24, 117 B25, 118 B26, 119 B27, 120 B28, 121 B29, 122 B30, 123 B31, 124 B32, 125 B33, 126 B34, 127 B35, 128 B36, 129 B37, 130 B38, 131 B39, 132 B40, 133 B41, 134 B42, 135 B43, 136 B44, 137 B45, 138 B46, 139 B47, 140 B48, 141 B49, 142 B50, 143 B51, 144 B52, 145 B53, 146 B54, 147 B55, 148 B56, 149 B57, 150 B58, 151 B59, 152 B60, 153 B61, 154 B62, 155 B63, 156 B64, 157 B65, 158 B66, 159 B67, 160 B68, 161 B69, 162 B70, 163 B71, 164 B72, 165 B73, 166 B74, 167 B75, 168 B76, 169 B77, 170 B78, 171 B79, 172 B80, 173 B81, 174 B82, 175 B83, 176 B84, 177 B85, 178 B86, 179 B87, 180 B88, 181 B89, 182 B90, 183 B91, 184 B92, 185 MH1, 186 MH2, 187 MH3

## 145169-2
designator J?
Connector Assembly, 92 Dual Position, 1.27 [.050] Series, Standard Edge; Positions: 2x92; BusWidth: 64 Bit; ContactMaterial: Phosphor Bronze; ContactPlating: Gold (15); Voltage: 5V; PCB_Layout: Complies with manufacturer's recommendation.; DrillSize: Corresponds to nominal value.; Published: 17-Jul-2002; DatasheetDocument: 9-Jun-2000; PackageDocument: 09-Jun-2000; PackageReference: 145169-2; Publisher: Altium Limited; ComponentLink1Description: Manufacturer Link; ComponentLink1URL: http://www.tycoelectronics.com/; ComponentLink2Description: Packaging Specification; ComponentLink2URL: http://ecommas.tycoelectronics.com/commerce/DocumentDelivery/DDEController?Action=showdoc&DocId=Customer+Drawing%7F145169%7FG%7Ftif%7FEnglish%7FENG_CD_145169_G.tif; ComponentLink3Description: Iges Model; ComponentLink3URL: http://catalog.tycoelectronics.com/TE/docs/cadgeo/0/23/35320.tar.gz
footprint 145169-2 (Connector; Card Edge .050 Series PCI; 2x92 Position; 64-Bit Bus)
signal-integrity model Card Edge
pins: 1 A1, 2 A2, 3 A3, 4 A4, 5 A5, 6 A6, 7 A7, 8 A8, 9 A9, 10 A10, 11 A11, 12 A12, 13 A13, 14 A14, 15 A15, 16 A16, 17 A17, 18 A18, 19 A19, 20 A20, 21 A21, 22 A22, 23 A23, 24 A24, 25 A25, 26 A26, 27 A27, 28 A28, 29 A29, 30 A30, 31 A31, 32 A32, 33 A33, 34 A34, 35 A35, 36 A36, 37 A37, 38 A38, 39 A39, 40 A40, 41 A41, 42 A42, 43 A43, 44 A44, 45 A45, 46 A46, 47 A47, 48 A48, 49 A49, 50 A50, 51 A51, 52 A52, 53 A53, 54 A54, 55 A55, 56 A56, 57 A57, 58 A58, 59 A59, 60 A60, 61 A61, 62 A62, 63 A63, 64 A64, 65 A65, 66 A66, 67 A67, 68 A68, 69 A69, 70 A70, 71 A71, 72 A72, 73 A73, 74 A74, 75 A75, 76 A76, 77 A77, 78 A78, 79 A79, 80 A80, 81 A81, 82 A82, 83 A83, 84 A84, 85 A85, 86 A86, 87 A87, 88 A88, 89 A89, 90 A90, 91 A91, 92 A92, 93 B1, 94 B2, 95 B3, 96 B4, 97 B5, 98 B6, 99 B7, 100 B8, 101 B9, 102 B10, 103 B11, 104 B12, 105 B13, 106 B14, 107 B15, 108 B16, 109 B17, 110 B18, 111 B19, 112 B20, 113 B21, 114 B22, 115 B23, 116 B24, 117 B25, 118 B26, 119 B27, 120 B28, 121 B29, 122 B30, 123 B31, 124 B32, 125 B33, 126 B34, 127 B35, 128 B36, 129 B37, 130 B38, 131 B39, 132 B40, 133 B41, 134 B42, 135 B43, 136 B44, 137 B45, 138 B46, 139 B47, 140 B48, 141 B49, 142 B50, 143 B51, 144 B52, 145 B53, 146 B54, 147 B55, 148 B56, 149 B57, 150 B58, 151 B59, 152 B60, 153 B61, 154 B62, 155 B63, 156 B64, 157 B65, 158 B66, 159 B67, 160 B68, 161 B69, 162 B70, 163 B71, 164 B72, 165 B73, 166 B74, 167 B75, 168 B76, 169 B77, 170 B78, 171 B79, 172 B80, 173 B81, 174 B82, 175 B83, 176 B84, 177 B85, 178 B86, 179 B87, 180 B88, 181 B89, 182 B90, 183 B91, 184 B92, 185 MH1, 186 MH2, 187 MH3

## 145169-4
designator J?
Connector Assembly, 92 Dual Position, 1.27 [.050] Series, Standard Edge; Positions: 2x92; BusWidth: 64 Bit; ContactMaterial: Phosphor Bronze; ContactPlating: Gold (30); Voltage: 5V; PCB_Layout: Complies with manufacturer's recommendation.; DrillSize: Corresponds to nominal value.; Published: 17-Jul-2002; DatasheetDocument: 9-Jun-2000; PackageDocument: 09-Jun-2000; PackageReference: 145169-4; Publisher: Altium Limited; ComponentLink1Description: Manufacturer Link; ComponentLink1URL: http://www.tycoelectronics.com/; ComponentLink2Description: Packaging Specification; ComponentLink2URL: http://ecommas.tycoelectronics.com/commerce/DocumentDelivery/DDEController?Action=showdoc&DocId=Customer+Drawing%7F145169%7FG%7Ftif%7FEnglish%7FENG_CD_145169_G.tif; ComponentLink3Description: Iges Model; ComponentLink3URL: http://catalog.tycoelectronics.com/TE/docs/cadgeo/0/23/35320.tar.gz
footprint 145169-4 (Connector; Card Edge .050 Series PCI; 2x92 Position; 64-Bit Bus)
signal-integrity model Card Edge
pins: 1 A1, 2 A2, 3 A3, 4 A4, 5 A5, 6 A6, 7 A7, 8 A8, 9 A9, 10 A10, 11 A11, 12 A12, 13 A13, 14 A14, 15 A15, 16 A16, 17 A17, 18 A18, 19 A19, 20 A20, 21 A21, 22 A22, 23 A23, 24 A24, 25 A25, 26 A26, 27 A27, 28 A28, 29 A29, 30 A30, 31 A31, 32 A32, 33 A33, 34 A34, 35 A35, 36 A36, 37 A37, 38 A38, 39 A39, 40 A40, 41 A41, 42 A42, 43 A43, 44 A44, 45 A45, 46 A46, 47 A47, 48 A48, 49 A49, 50 A50, 51 A51, 52 A52, 53 A53, 54 A54, 55 A55, 56 A56, 57 A57, 58 A58, 59 A59, 60 A60, 61 A61, 62 A62, 63 A63, 64 A64, 65 A65, 66 A66, 67 A67, 68 A68, 69 A69, 70 A70, 71 A71, 72 A72, 73 A73, 74 A74, 75 A75, 76 A76, 77 A77, 78 A78, 79 A79, 80 A80, 81 A81, 82 A82, 83 A83, 84 A84, 85 A85, 86 A86, 87 A87, 88 A88, 89 A89, 90 A90, 91 A91, 92 A92, 93 B1, 94 B2, 95 B3, 96 B4, 97 B5, 98 B6, 99 B7, 100 B8, 101 B9, 102 B10, 103 B11, 104 B12, 105 B13, 106 B14, 107 B15, 108 B16, 109 B17, 110 B18, 111 B19, 112 B20, 113 B21, 114 B22, 115 B23, 116 B24, 117 B25, 118 B26, 119 B27, 120 B28, 121 B29, 122 B30, 123 B31, 124 B32, 125 B33, 126 B34, 127 B35, 128 B36, 129 B37, 130 B38, 131 B39, 132 B40, 133 B41, 134 B42, 135 B43, 136 B44, 137 B45, 138 B46, 139 B47, 140 B48, 141 B49, 142 B50, 143 B51, 144 B52, 145 B53, 146 B54, 147 B55, 148 B56, 149 B57, 150 B58, 151 B59, 152 B60, 153 B61, 154 B62, 155 B63, 156 B64, 157 B65, 158 B66, 159 B67, 160 B68, 161 B69, 162 B70, 163 B71, 164 B72, 165 B73, 166 B74, 167 B75, 168 B76, 169 B77, 170 B78, 171 B79, 172 B80, 173 B81, 174 B82, 175 B83, 176 B84, 177 B85, 178 B86, 179 B87, 180 B88, 181 B89, 182 B90, 183 B91, 184 B92, 185 MH1, 186 MH2, 187 MH3

## 145169-8
designator J?
Connector Assembly, 92 Dual Position, 1.27 [.050] Series, Standard Edge; Positions: 2x92; BusWidth: 64 Bit; ContactMaterial: Phosphor Bronze; ContactPlating: Gold (30); Voltage: 5V; PCB_Layout: Complies with manufacturer's recommendation.; DrillSize: Corresponds to nominal value.; Published: 17-Jul-2002; DatasheetDocument: 9-Jun-2000; PackageDocument: 09-Jun-2000; PackageReference: 145169-8; Publisher: Altium Limited; ComponentLink1Description: Manufacturer Link; ComponentLink1URL: http://www.tycoelectronics.com/; ComponentLink2Description: Packaging Specification; ComponentLink2URL: http://ecommas.tycoelectronics.com/commerce/DocumentDelivery/DDEController?Action=showdoc&DocId=Customer+Drawing%7F145169%7FG%7Ftif%7FEnglish%7FENG_CD_145169_G.tif; ComponentLink3Description: Iges Model; ComponentLink3URL: http://catalog.tycoelectronics.com/TE/docs/cadgeo/0/23/35320.tar.gz
footprint 145169-8 (Connector; Card Edge .050 Series PCI; 2x92 Position; 64-Bit Bus)
signal-integrity model Card Edge
pins: 1 A1, 2 A2, 3 A3, 4 A4, 5 A5, 6 A6, 7 A7, 8 A8, 9 A9, 10 A10, 11 A11, 12 A12, 13 A13, 14 A14, 15 A15, 16 A16, 17 A17, 18 A18, 19 A19, 20 A20, 21 A21, 22 A22, 23 A23, 24 A24, 25 A25, 26 A26, 27 A27, 28 A28, 29 A29, 30 A30, 31 A31, 32 A32, 33 A33, 34 A34, 35 A35, 36 A36, 37 A37, 38 A38, 39 A39, 40 A40, 41 A41, 42 A42, 43 A43, 44 A44, 45 A45, 46 A46, 47 A47, 48 A48, 49 A49, 50 A50, 51 A51, 52 A52, 53 A53, 54 A54, 55 A55, 56 A56, 57 A57, 58 A58, 59 A59, 60 A60, 61 A61, 62 A62, 63 A63, 64 A64, 65 A65, 66 A66, 67 A67, 68 A68, 69 A69, 70 A70, 71 A71, 72 A72, 73 A73, 74 A74, 75 A75, 76 A76, 77 A77, 78 A78, 79 A79, 80 A80, 81 A81, 82 A82, 83 A83, 84 A84, 85 A85, 86 A86, 87 A87, 88 A88, 89 A89, 90 A90, 91 A91, 92 A92, 93 B1, 94 B2, 95 B3, 96 B4, 97 B5, 98 B6, 99 B7, 100 B8, 101 B9, 102 B10, 103 B11, 104 B12, 105 B13, 106 B14, 107 B15, 108 B16, 109 B17, 110 B18, 111 B19, 112 B20, 113 B21, 114 B22, 115 B23, 116 B24, 117 B25, 118 B26, 119 B27, 120 B28, 121 B29, 122 B30, 123 B31, 124 B32, 125 B33, 126 B34, 127 B35, 128 B36, 129 B37, 130 B38, 131 B39, 132 B40, 133 B41, 134 B42, 135 B43, 136 B44, 137 B45, 138 B46, 139 B47, 140 B48, 141 B49, 142 B50, 143 B51, 144 B52, 145 B53, 146 B54, 147 B55, 148 B56, 149 B57, 150 B58, 151 B59, 152 B60, 153 B61, 154 B62, 155 B63, 156 B64, 157 B65, 158 B66, 159 B67, 160 B68, 161 B69, 162 B70, 163 B71, 164 B72, 165 B73, 166 B74, 167 B75, 168 B76, 169 B77, 170 B78, 171 B79, 172 B80, 173 B81, 174 B82, 175 B83, 176 B84, 177 B85, 178 B86, 179 B87, 180 B88, 181 B89, 182 B90, 183 B91, 184 B92, 185 MH1, 186 MH2, 187 MH3

## 145246-1
designator J?
Connector Assembly, 92 Dual Position, 1.27 [.050] Series, Standard Edge Surface Mount; Positions: 2x92; BusWidth: 64 Bit; ContactMaterial: Phosphor Bronze; ContactPlating: Gold (30) over Nickel; Voltage: 3.3V; PCB_Layout: Complies with manufacturer's recommendation.; DrillSize: Corresponds to nominal value.; Published: 17-Jul-2002; DatasheetDocument: 10-Jul-2000; PackageDocument: 10-Jul-2000; PackageReference: 145246-1; Publisher: Altium Limited; ComponentLink1Description: Manufacturer Link; ComponentLink1URL: http://www.tycoelectronics.com/; ComponentLink2Description: Packaging Specification; ComponentLink2URL: http://ecommas.tycoelectronics.com/commerce/DocumentDelivery/DDEController?Action=showdoc&DocId=Customer+Drawing%7F145246%7FC%7Fpdf%7FEnglish%7FENG_CD_145246_C.pdf; ComponentLink3Description: Iges Model; ComponentLink3URL: http://catalog.tycoelectronics.com/TE/docs/cadgeo/0/60/37060.tar.gz
footprint 145246-1 (Connector; Card Edge .050 Series PCI; 2x92 Position; 64-Bit Bus)
signal-integrity model Card Edge
pins: 1 A1, 2 A2, 3 A3, 4 A4, 5 A5, 6 A6, 7 A7, 8 A8, 9 A9, 10 A10, 11 A11, 12 A12, 13 A13, 14 A14, 15 A15, 16 A16, 17 A17, 18 A18, 19 A19, 20 A20, 21 A21, 22 A22, 23 A23, 24 A24, 25 A25, 26 A26, 27 A27, 28 A28, 29 A29, 30 A30, 31 A31, 32 A32, 33 A33, 34 A34, 35 A35, 36 A36, 37 A37, 38 A38, 39 A39, 40 A40, 41 A41, 42 A42, 43 A43, 44 A44, 45 A45, 46 A46, 47 A47, 48 A48, 49 A49, 50 A50, 51 A51, 52 A52, 53 A53, 54 A54, 55 A55, 56 A56, 57 A57, 58 A58, 59 A59, 60 A60, 61 A61, 62 A62, 63 A63, 64 A64, 65 A65, 66 A66, 67 A67, 68 A68, 69 A69, 70 A70, 71 A71, 72 A72, 73 A73, 74 A74, 75 A75, 76 A76, 77 A77, 78 A78, 79 A79, 80 A80, 81 A81, 82 A82, 83 A83, 84 A84, 85 A85, 86 A86, 87 A87, 88 A88, 89 A89, 90 A90, 91 A91, 92 A92, 93 B1, 94 B2, 95 B3, 96 B4, 97 B5, 98 B6, 99 B7, 100 B8, 101 B9, 102 B10, 103 B11, 104 B12, 105 B13, 106 B14, 107 B15, 108 B16, 109 B17, 110 B18, 111 B19, 112 B20, 113 B21, 114 B22, 115 B23, 116 B24, 117 B25, 118 B26, 119 B27, 120 B28, 121 B29, 122 B30, 123 B31, 124 B32, 125 B33, 126 B34, 127 B35, 128 B36, 129 B37, 130 B38, 131 B39, 132 B40, 133 B41, 134 B42, 135 B43, 136 B44, 137 B45, 138 B46, 139 B47, 140 B48, 141 B49, 142 B50, 143 B51, 144 B52, 145 B53, 146 B54, 147 B55, 148 B56, 149 B57, 150 B58, 151 B59, 152 B60, 153 B61, 154 B62, 155 B63, 156 B64, 157 B65, 158 B66, 159 B67, 160 B68, 161 B69, 162 B70, 163 B71, 164 B72, 165 B73, 166 B74, 167 B75, 168 B76, 169 B77, 170 B78, 171 B79, 172 B80, 173 B81, 174 B82, 175 B83, 176 B84, 177 B85, 178 B86, 179 B87, 180 B88, 181 B89, 182 B90, 183 B91, 184 B92, 185 MH1, 186 MH2, 187 MH3